# EAGLE library part FPC40-H (library ds_con)
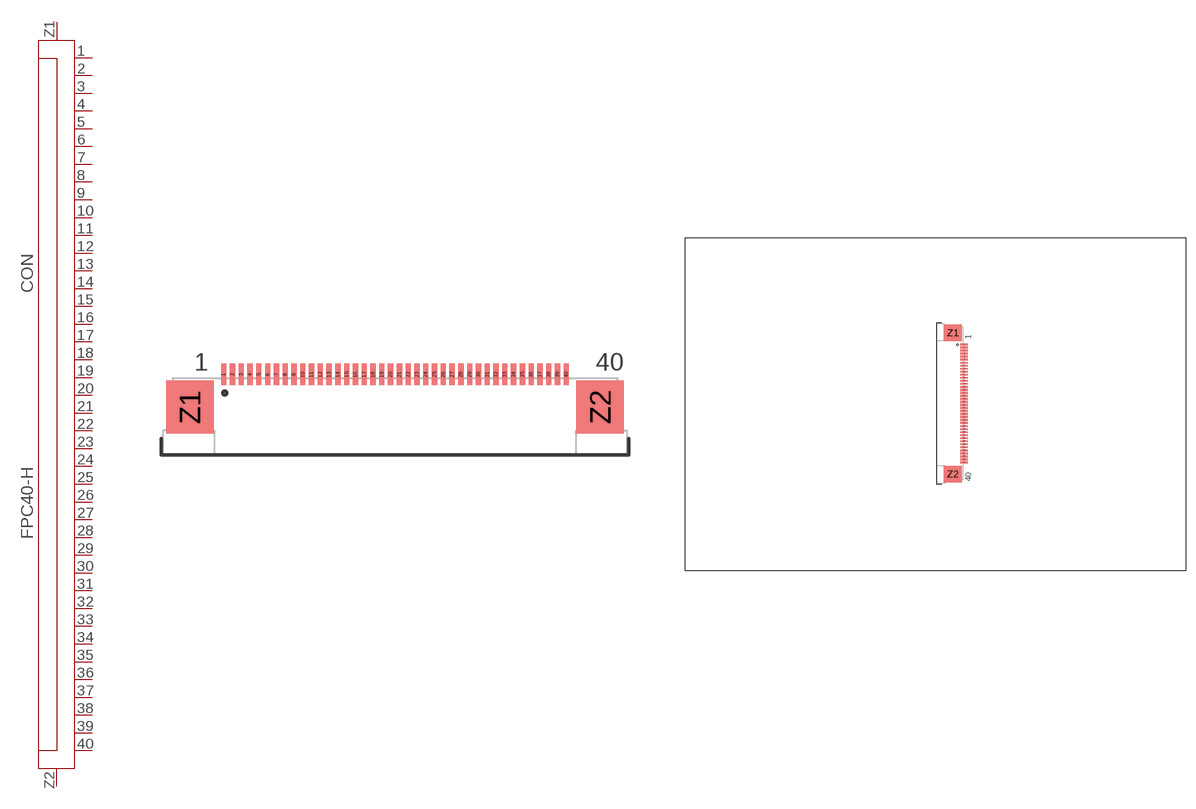
[diagram p17: symbol with the pads of FPC40; footprints FPC40, FPC40_3.5TFT]

Designator prefix CON

## FPC40-H  [FPC40]
1  1
2  2
3  3
4  4
5  5
6  6
7  7
8  8
9  9
10  10
11  11
12  12
13  13
14  14
15  15
16  16
17  17
18  18
19  19
20  20
21  21
22  22
23  23
24  24
25  25
26  26
27  27
28  28
29  29
30  30
31  31
32  32
33  33
34  34
35  35
36  36
37  37
38  38
39  39
40  40
Z1  Z1
Z2  Z2

## FPC40-HD  [FPC40_3.5TFT]
Pads as for FPC40

## Footprint FPC40 (pad centres in mm)
smd 0.3 x 1.2: 1 -9.75,2.35; 2 -9.25,2.35; 3 -8.75,2.35; 4 -8.25,2.35; 5 -7.75,2.35; 6 -7.25,2.35; 7 -6.75,2.35; 8 -6.25,2.35; 9 -5.75,2.35; 10 -5.25,2.35; 11 -4.75,2.35; 12 -4.25,2.35; 13 -3.75,2.35; 14 -3.25,2.35; 15 -2.75,2.35; 16 -2.25,2.35; 17 -1.75,2.35; 18 -1.25,2.35; 19 -0.75,2.35; 20 -0.25,2.35; 21 0.25,2.35; 22 0.75,2.35; 23 1.25,2.35; 24 1.75,2.35; 25 2.25,2.35; 26 2.75,2.35; 27 3.25,2.35; 28 3.75,2.35; 29 4.25,2.35; 30 4.75,2.35; 31 5.25,2.35; 32 5.75,2.35; 33 6.25,2.35; 34 6.75,2.35; 35 7.25,2.35; 36 7.75,2.35; 37 8.25,2.35; 38 8.75,2.35; 39 9.25,2.35; 40 9.75,2.35
smd 2.7 x 3: Z1 -11.68,0.49; Z2 11.68,0.49

## Footprint FPC40_3.5TFT (pad centres in mm)
smd 1.2 x 0.3: 1 24.191,10.261; 2 24.191,9.761; 3 24.191,9.261; 4 24.191,8.761; 5 24.191,8.261; 6 24.191,7.761; 7 24.191,7.261; 8 24.191,6.761; 9 24.191,6.261; 10 24.191,5.761; 11 24.191,5.261; 12 24.191,4.761; 13 24.191,4.261; 14 24.191,3.761; 15 24.191,3.261; 16 24.191,2.761; 17 24.191,2.261; 18 24.191,1.761; 19 24.191,1.261; 20 24.191,0.761; 21 24.191,0.261; 22 24.191,-0.239; 23 24.191,-0.739; 24 24.191,-1.239; 25 24.191,-1.739; 26 24.191,-2.239; 27 24.191,-2.739; 28 24.191,-3.239; 29 24.191,-3.739; 30 24.191,-4.239; 31 24.191,-4.739; 32 24.191,-5.239; 33 24.191,-5.739; 34 24.191,-6.239; 35 24.191,-6.739; 36 24.191,-7.239; 37 24.191,-7.739; 38 24.191,-8.239; 39 24.191,-8.739; 40 24.191,-9.239
smd 3 x 2.7: Z1 22.331,12.191; Z2 22.331,-11.169